# EAGLE library part MA06-1 (library dtb)
PIN HEADER
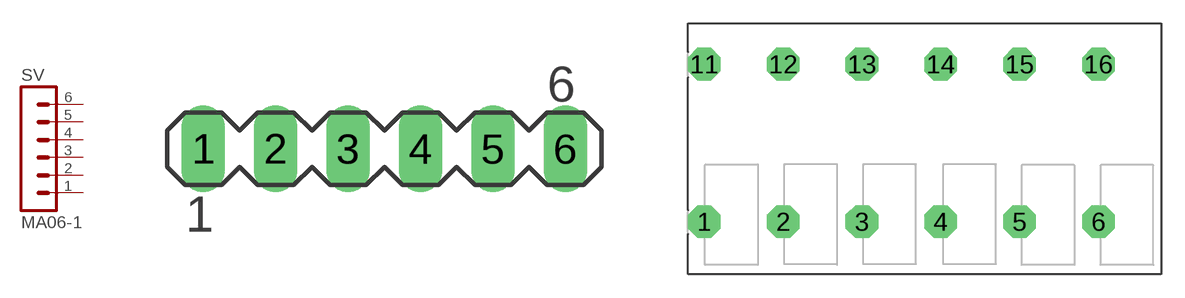
[diagram p13: symbol with the pads of MA06-1; footprints MA06-1, CSTB/6]

Designator prefix SV

## MA06-1 (OC_FARNELL: unknown; OC_NEWARK: unknown)  [MA06-1]
1  1  pas
2  2  pas
3  3  pas
4  4  pas
5  5  pas
6  6  pas

## MA06-1TB  [CSTB/6]
1  1  pas
2  2  pas
3  3  pas
4  4  pas
5  5  pas
6  6  pas
11  1  pas
12  2  pas
13  3  pas
14  4  pas
15  5  pas
16  6  pas

## Footprint MA06-1 (pad centres in mm)
PIN HEADER
drill 1.016 long: 1 -6.35,0; 2 -3.81,0; 3 -1.27,0; 4 1.27,0; 5 3.81,0; 6 6.35,0

## Footprint CSTB/6 (pad centres in mm)
drill 1.4 octagon: 1 0,0; 2 5.08,0; 3 10.16,0; 4 15.24,0; 5 20.32,0; 6 25.4,0; 11 0,10.16; 12 5.08,10.16; 13 10.16,10.16; 14 15.24,10.16; 15 20.32,10.16; 16 25.4,10.16